# Altium schematic symbol library DAC60501.SchLib: 1 symbol
Pins are listed as number, name and electrical type; pins without a type are passive.

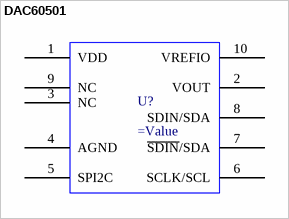
[diagram p0: symbol DAC60501]

## DAC60501
designator U?
pins: 1 VDD, 2 VOUT, 3 NC, 4 AGND, 5 SPI2C, 6 SCLK/SCL, 7 ~{SDIN}/SDA, 8 SDIN/SDA, 9 NC, 10 VREFIO